# EAGLE library part M37630(44PIN) (library renesas_mcu)
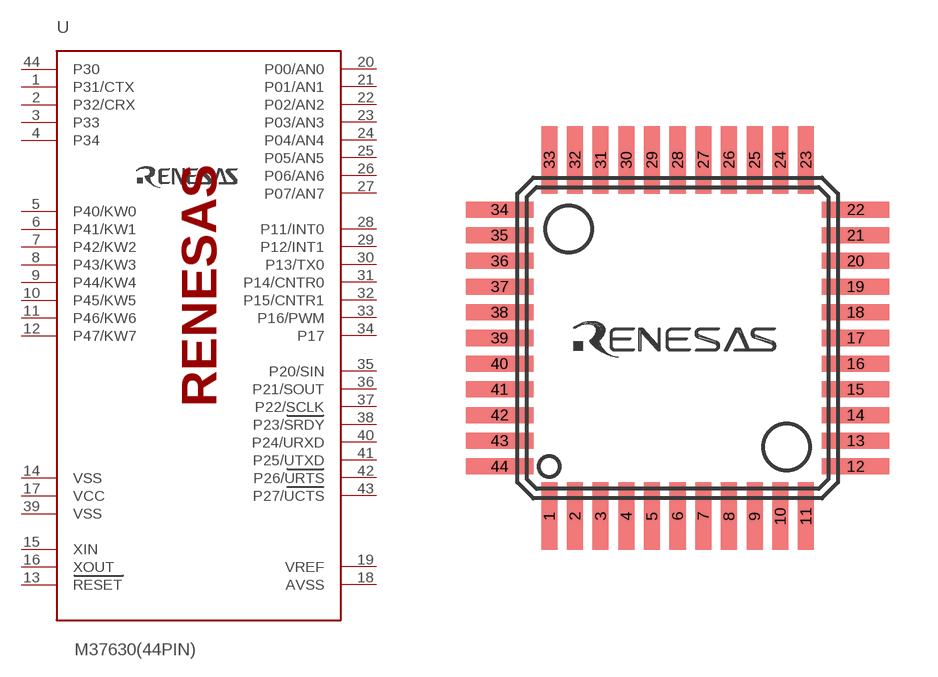
[diagram p27: symbol with the pads of 44P6N-A; footprint 44P6N-A]

Designator prefix -

## M37630(44PIN)  [44P6N-A]
1  P31/CTX
2  P32/CRX
3  P33
4  P34
5  P40/KW0
6  P41/KW1
7  P42/KW2
8  P43/KW3
9  P44/KW4
10  P45/KW5
11  P46/KW6
12  P47/KW7
13  RESET  in
14  VSS  pwr
15  XIN  in
16  XOUT  out
17  VCC  pwr
18  AVSS  pwr
19  VREF  in
20  P00/AN0
21  P01/AN1
22  P02/AN2
23  P03/AN3
24  P04/AN4
25  P05/AN5
26  P06/AN6
27  P07/AN7
28  P11/INT0  in
29  P12/INT1
30  P13/TX0
31  P14/CNTR0
32  P15/CNTR1
33  P16/PWM
34  P17  in
35  P20/SIN
36  P21/SOUT
37  P22/SCLK  in
38  P23/SRDY  in
39  VSS  pwr
40  P24/URXD  in
41  P25/UTXD  in
42  P26/URTS  in
43  P27/UCTS  in
44  P30

## Footprint 44P6N-A (pad centres in mm)
smd 0.5 x 2.1: 1 -4,-5.55; 2 -3.2,-5.55; 3 -2.4,-5.55; 4 -1.6,-5.55; 5 -0.8,-5.55; 6 0,-5.55; 7 0.8,-5.55; 8 1.6,-5.55; 9 2.4,-5.55; 10 3.2,-5.55; 11 4,-5.55; 23 4,5.55; 24 3.2,5.55; 25 2.4,5.55; 26 1.6,5.55; 27 0.8,5.55; 28 0,5.55; 29 -0.8,5.55; 30 -1.6,5.55; 31 -2.4,5.55; 32 -3.2,5.55; 33 -4,5.55
smd 2.1 x 0.5: 12 5.55,-4; 13 5.55,-3.2; 14 5.55,-2.4; 15 5.55,-1.6; 16 5.55,-0.8; 17 5.55,0; 18 5.55,0.8; 19 5.55,1.6; 20 5.55,2.4; 21 5.55,3.2; 22 5.55,4; 34 -5.55,4; 35 -5.55,3.2; 36 -5.55,2.4; 37 -5.55,1.6; 38 -5.55,0.8; 39 -5.55,0; 40 -5.55,-0.8; 41 -5.55,-1.6; 42 -5.55,-2.4; 43 -5.55,-3.2; 44 -5.55,-4